# Altium footprint library resistor-dil.PCBLIB: 22 footprints (part 2 of 2)
Each footprint in its own frame and in the unit in brackets; x right, y up, seen from the top. Pads: shape width x height; smd on the part's side, far side on the other; paste and mask are expansions set on the pad; w line width, h text height; cw(c..) or ccw(c..) is an arc to the next point about the centre after c.
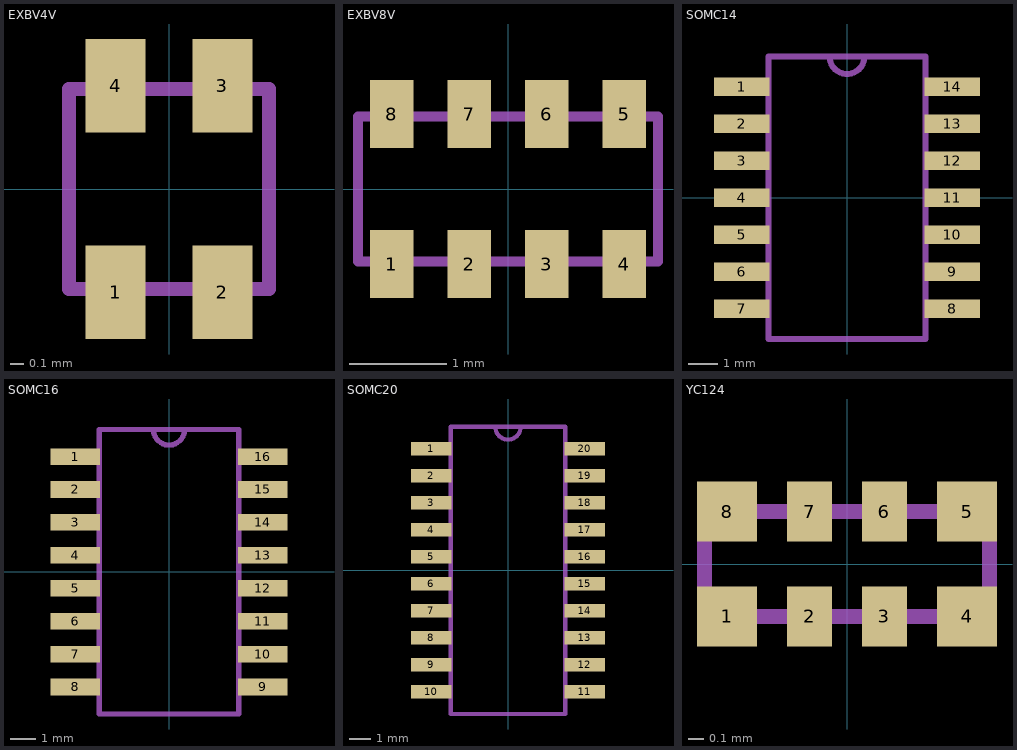
[diagram p1: the footprints below, top view; thin cyan lines are the x and y axes]

## EXBV4V [mm]
pads (4):
  rect 0.45x0.7 smd: 1(-0.4,-0.775) 2(0.4,-0.775) 3(0.4,0.775) 4(-0.4,0.775)
Mechanical 2:
  lines w0.102: -0.75,-0.75 -0.75,0.75 ; 0.75,-0.75 0.75,0.75
Mechanical 18:
  lines w0.102: -0.75,-0.75 -0.55,-0.75 cw(c-0.4,-0.75) -0.4,-0.6 cw(c-0.4,-0.75) -0.25,-0.75 0.25,-0.75 cw(c0.4,-0.75) 0.4,-0.6 cw(c0.4,-0.75) 0.55,-0.75 0.75,-0.75 ; -0.75,0.75 -0.55,0.75 ccw(c-0.4,0.75) -0.4,0.6 ccw(c-0.4,0.75) -0.25,0.75 0.25,0.75 ccw(c0.4,0.75) 0.4,0.6 ccw(c0.4,0.75) 0.55,0.75 0.75,0.75

## EXBV8V [mm]
pads (8):
  rect 0.45x0.7 smd: 1(-1.2,-0.775) 2(-0.4,-0.775) 3(0.4,-0.775) 4(1.2,-0.775) 5(1.2,0.775) 6(0.4,0.775) 7(-0.4,0.775) 8(-1.2,0.775)
Mechanical 2:
  lines w0.102: -1.55,-0.75 -1.55,0.75 ; 1.55,-0.75 1.55,0.75
Mechanical 18:
  lines w0.102: -1.55,-0.75 -1.35,-0.75 cw(c-1.2,-0.75) -1.2,-0.6 cw(c-1.2,-0.75) -1.05,-0.75 -0.55,-0.75 cw(c-0.4,-0.75) -0.4,-0.6 cw(c-0.4,-0.75) -0.25,-0.75 0.25,-0.75 cw(c0.4,-0.75) 0.4,-0.6 cw(c0.4,-0.75) 0.55,-0.75 1.05,-0.75 cw(c1.2,-0.75) 1.2,-0.6 cw(c1.2,-0.75) 1.35,-0.75 1.55,-0.75 ; -1.55,0.75 -1.35,0.75 ccw(c-1.2,0.75) -1.2,0.6 ccw(c-1.2,0.75) -1.05,0.75 -0.55,0.75 ccw(c-0.4,0.75) -0.4,0.6 ccw(c-0.4,0.75) -0.25,0.75 0.25,0.75 ccw(c0.4,0.75) 0.4,0.6 ccw(c0.4,0.75) 0.55,0.75 1.05,0.75 ccw(c1.2,0.75) 1.2,0.6 ccw(c1.2,0.75) 1.35,0.75 1.55,0.75

## SOMC14 [mm]
pads (14):
  rect 1.91x0.64 smd: 1(-3.62,3.81) 2(-3.62,2.54) 3(-3.62,1.27) 4(-3.62,0) 5(-3.62,-1.27) 6(-3.62,-2.54) 7(-3.62,-3.81) 8(3.62,-3.81) 9(3.62,-2.54) 10(3.62,-1.27) 11(3.62,0) 12(3.62,1.27) 13(3.62,2.54) 14(3.62,3.81)
Mechanical 2:
  lines w0.203: -0.6,4.853 ccw(c0,4.853) 0.6,4.853 ; -2.693,-4.853 2.693,-4.853 2.693,4.853 -2.693,4.853 -2.693,-4.853
Mechanical 18:
  rectangle: -3.81,3.581 -2.795,4.039
  rectangle: -3.81,2.311 -2.795,2.769
  rectangle: -3.81,1.041 -2.795,1.499
  rectangle: -3.81,-0.229 -2.795,0.229
  rectangle: -3.81,-1.499 -2.795,-1.041
  rectangle: -3.81,-2.769 -2.795,-2.311
  rectangle: -3.81,-4.039 -2.795,-3.581
  rectangle: 2.795,-4.039 3.81,-3.581
  rectangle: 2.795,-2.769 3.81,-2.311
  rectangle: 2.795,-1.499 3.81,-1.041
  rectangle: 2.795,-0.229 3.81,0.229
  rectangle: 2.795,1.041 3.81,1.499
  rectangle: 2.795,2.311 3.81,2.769
  rectangle: 2.795,3.581 3.81,4.039

## SOMC16 [mm]
pads (16):
  rect 1.91x0.64 smd: 1(-3.62,4.445) 2(-3.62,3.175) 3(-3.62,1.905) 4(-3.62,0.635) 5(-3.62,-0.635) 6(-3.62,-1.905) 7(-3.62,-3.175) 8(-3.62,-4.445) 9(3.62,-4.445) 10(3.62,-3.175) 11(3.62,-1.905) 12(3.62,-0.635) 13(3.62,0.635) 14(3.62,1.905) 15(3.62,3.175) 16(3.62,4.445)
Mechanical 2:
  lines w0.203: -0.6,5.488 ccw(c0,5.488) 0.6,5.488 ; -2.693,-5.488 2.693,-5.488 2.693,5.488 -2.693,5.488 -2.693,-5.488
Mechanical 18:
  rectangle: -3.81,4.216 -2.795,4.674
  rectangle: -3.81,2.946 -2.795,3.404
  rectangle: -3.81,1.676 -2.795,2.134
  rectangle: -3.81,0.406 -2.795,0.864
  rectangle: -3.81,-0.864 -2.795,-0.406
  rectangle: -3.81,-2.134 -2.795,-1.676
  rectangle: -3.81,-3.404 -2.795,-2.946
  region: -2.795,-4.216 -3.81,-4.216 -3.81,-4.674 -2.795,-4.674
  rectangle: 2.795,-4.674 3.81,-4.216
  rectangle: 2.795,-3.404 3.81,-2.946
  rectangle: 2.795,-2.134 3.81,-1.676
  rectangle: 2.795,-0.864 3.81,-0.406
  rectangle: 2.795,0.406 3.81,0.864
  rectangle: 2.795,1.676 3.81,2.134
  rectangle: 2.795,2.946 3.81,3.404
  rectangle: 2.795,4.216 3.81,4.674

## SOMC20 [mm]
pads (20):
  rect 1.91x0.64 smd: 1(-3.62,5.715) 2(-3.62,4.445) 3(-3.62,3.175) 4(-3.62,1.905) 5(-3.62,0.635) 6(-3.62,-0.635) 7(-3.62,-1.905) 8(-3.62,-3.175) 9(-3.62,-4.445) 10(-3.62,-5.715) 11(3.62,-5.715) 12(3.62,-4.445) 13(3.62,-3.175) 14(3.62,-1.905) 15(3.62,-0.635) 16(3.62,0.635) 17(3.62,1.905) 18(3.62,3.175) 19(3.62,4.445) 20(3.62,5.715)
Mechanical 2:
  lines w0.203: -0.6,6.758 ccw(c0,6.758) 0.6,6.758 ; -2.693,-6.758 2.693,-6.758 2.693,6.758 -2.693,6.758 -2.693,-6.758
Mechanical 18:
  rectangle: -3.81,5.486 -2.795,5.944
  rectangle: -3.81,4.216 -2.795,4.674
  rectangle: -3.81,2.946 -2.795,3.404
  rectangle: -3.81,1.676 -2.795,2.134
  rectangle: -3.81,0.406 -2.795,0.864
  rectangle: -3.81,-0.864 -2.795,-0.406
  rectangle: -3.81,-2.134 -2.795,-1.676
  region: -2.795,-2.946 -3.81,-2.946 -3.81,-3.404 -2.795,-3.404
  region: -2.795,-4.216 -3.81,-4.216 -3.81,-4.674 -2.795,-4.674
  region: -2.795,-5.486 -3.81,-5.486 -3.81,-5.944 -2.795,-5.944
  rectangle: 2.795,-5.944 3.81,-5.486
  rectangle: 2.795,-4.674 3.81,-4.216
  rectangle: 2.795,-3.404 3.81,-2.946
  rectangle: 2.795,-2.134 3.81,-1.676
  rectangle: 2.795,-0.864 3.81,-0.406
  rectangle: 2.795,0.406 3.81,0.864
  rectangle: 2.795,1.676 3.81,2.134
  rectangle: 2.795,2.946 3.81,3.404
  rectangle: 2.795,4.216 3.81,4.674
  rectangle: 2.795,5.486 3.81,5.944

## YC124 [mm]
pads (8):
  rect 0.4x0.4 smd: 1(-0.8,-0.35) 4(0.8,-0.35) 5(0.8,0.35) 8(-0.8,0.35)
  rect 0.3x0.4 smd: 2(-0.25,-0.35) 3(0.25,-0.35) 6(0.25,0.35) 7(-0.25,0.35)
Mechanical 18:
  rectangle: -0.4,0.475 -0.1,0.5
  rectangle: -0.325,0.4 -0.175,0.475
  rectangle: 0.1,0.475 0.4,0.5
  rectangle: 0.175,0.4 0.325,0.475
  rectangle: 0.6,0.475 1,0.5
  rectangle: 0.675,0.4 0.825,0.475
  region: 1,-0.475 0.6,-0.475 0.6,-0.5 1,-0.5
  region: 0.825,-0.4 0.675,-0.4 0.675,-0.475 0.825,-0.475
  region: 0.4,-0.475 0.1,-0.475 0.1,-0.5 0.4,-0.5
  region: 0.325,-0.4 0.175,-0.4 0.175,-0.475 0.325,-0.475
  region: -0.1,-0.475 -0.4,-0.475 -0.4,-0.5 -0.1,-0.5
  region: -0.175,-0.4 -0.325,-0.4 -0.325,-0.475 -0.175,-0.475
  region: -0.6,-0.475 -1,-0.475 -1,-0.5 -0.6,-0.5
  region: -0.675,-0.4 -0.825,-0.4 -0.825,-0.475 -0.675,-0.475
  rectangle: -1,0.475 -0.6,0.5
  rectangle: -0.825,0.4 -0.675,0.475
  lines w0.102: -0.95,-0.35 0.95,-0.35 0.95,0.35 -0.95,0.35 -0.95,-0.35